# EAGLE library part ADXL377 (library M0)
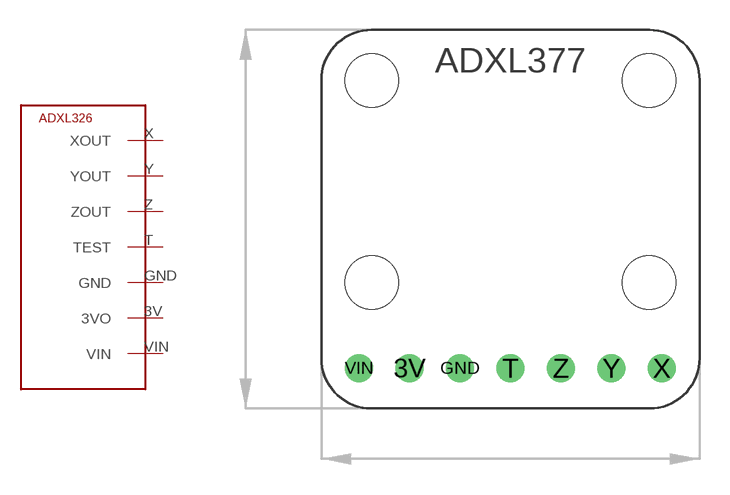
[diagram p2: symbol with the pads of ADXL377; footprint ADXL377]

Designator prefix -

## ADXL377  [ADXL377]
3V  3VO
GND  GND
T  TEST
VIN  VIN
X  XOUT
Y  YOUT
Z  ZOUT

## Footprint ADXL377 (pad centres in mm)
drill 0.9: 3V 4.445,2.032; GND 6.985,2.032; T 9.525,2.032; VIN 1.905,2.032; X 17.145,2.032; Y 14.605,2.032; Z 12.065,2.032
hole 2.692 at 16.51,6.35
hole 2.692 at 2.54,16.51
hole 2.692 at 16.51,16.51
hole 2.692 at 2.54,6.35